# EAGLE library part ARDUINO_PRO_MICRO (library DIYKeyboard)
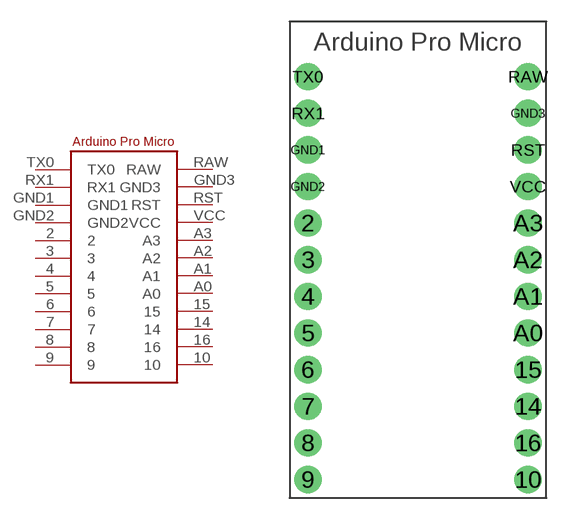
[diagram p2: symbol with the pads of ARDUINO_PRO_MICRO; footprint ARDUINO_PRO_MICRO]

Designator prefix -

## ARDUINO_PRO_MICRO  [ARDUINO_PRO_MICRO]
2  2
3  3
4  4
5  5
6  6
7  7
8  8
9  9
10  10
14  14
15  15
16  16
A0  A0
A1  A1
A2  A2
A3  A3
GND1  GND1
GND2  GND2
GND3  GND3
RAW  RAW
RST  RST
RX1  RX1
TX0  TX0
VCC  VCC

## Footprint ARDUINO_PRO_MICRO (pad centres in mm)
drill 1.016 pad 1.88: 2 -7.62,2.54; 3 -7.62,0; 4 -7.62,-2.54; 5 -7.62,-5.08; 6 -7.62,-7.62; 7 -7.62,-10.16; 8 -7.62,-12.7; 9 -7.62,-15.24; 10 7.62,-15.24; 14 7.62,-10.16; 15 7.62,-7.62; 16 7.62,-12.7; A0 7.62,-5.08; A1 7.62,-2.54; A2 7.62,0; A3 7.62,2.54; GND1 -7.62,7.62; GND2 -7.62,5.08; GND3 7.62,10.16; RAW 7.62,12.7; RST 7.62,7.62; RX1 -7.62,10.16; TX0 -7.62,12.7; VCC 7.62,5.08